# Altium schematic symbol library DRC-V-822K.SchLib: 1 symbol
Pins are listed as number, name and electrical type; pins without a type are passive.

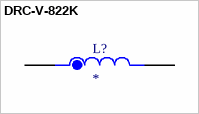
[diagram p0: symbol DRC-V-822K]

## DRC-V-822K
designator L?
Radial Inductor with Leads,8200ÂµH, 0.13A,Q>20; MP: DRC-V-822K; MF: Bel Fuse; Purchase-URL: https://pricing.snapeda.com/search/part/DRC-V-822K/?ref=eda; SnapEDA_Link: https://www.snapeda.com/parts/DRC-V-822K/Bel+Fuse/view-part/?ref=snap; Value: *; Package: None; Price: None; Availability: In Stock; Check_prices: https://www.snapeda.com/parts/DRC-V-822K/Bel+Fuse/view-part/?ref=eda
footprint IND_DRC-V-822K
pins: 1, 2